# EAGLE library part TPS65131 (library texas-instruments)
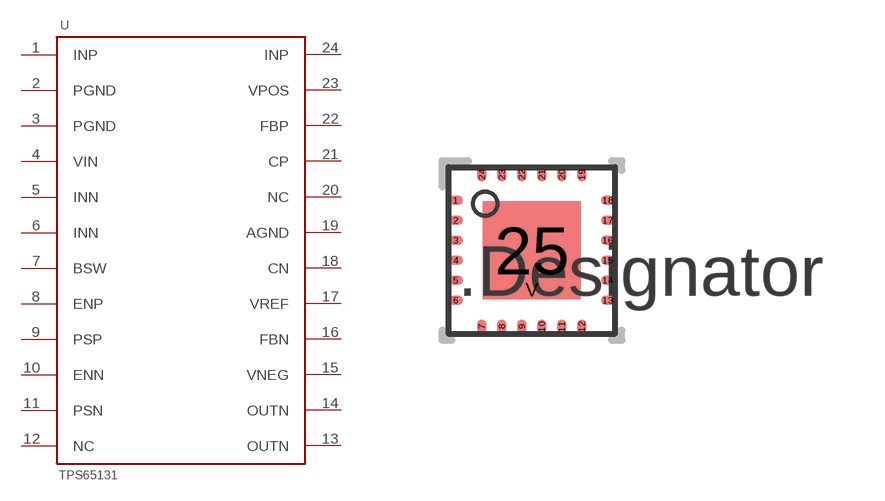
[diagram p0: symbol with the pads of VQFN-24; footprint VQFN-24]

Designator prefix -

## TPS65131  [VQFN-24]
1  INP
2  PGND
3  PGND
4  VIN
5  INN
6  INN
7  BSW
8  ENP
9  PSP
10  ENN
11  PSN
12  NC
13  OUTN
14  OUTN
15  VNEG
16  FBN
17  VREF
18  CN
19  AGND
20  NC
21  CP
22  FBP
23  VPOS
24  INP

## Footprint VQFN-24 (pad centres in mm)
smd 0.36 x 0.24: 1 -1.9,1.25; 2 -1.9,0.75; 3 -1.9,0.25; 4 -1.9,-0.25; 5 -1.9,-0.75; 6 -1.9,-1.25; 13 1.9,-1.25; 14 1.9,-0.75; 15 1.9,-0.25; 16 1.9,0.25; 17 1.9,0.75; 18 1.9,1.25
smd 0.24 x 0.36: 7 -1.25,-1.9; 8 -0.75,-1.9; 9 -0.25,-1.9; 10 0.25,-1.9; 11 0.75,-1.9; 12 1.25,-1.9; 19 1.25,1.9; 20 0.75,1.9; 21 0.25,1.9; 22 -0.25,1.9; 23 -0.75,1.9; 24 -1.25,1.9
smd 2.45 x 2.45: 25 0,0
smd 0.5 x 0.5: V 0,-0.975